# Altium schematic symbol library Schlib1.SchLib: 97 symbols (part 2 of 2)
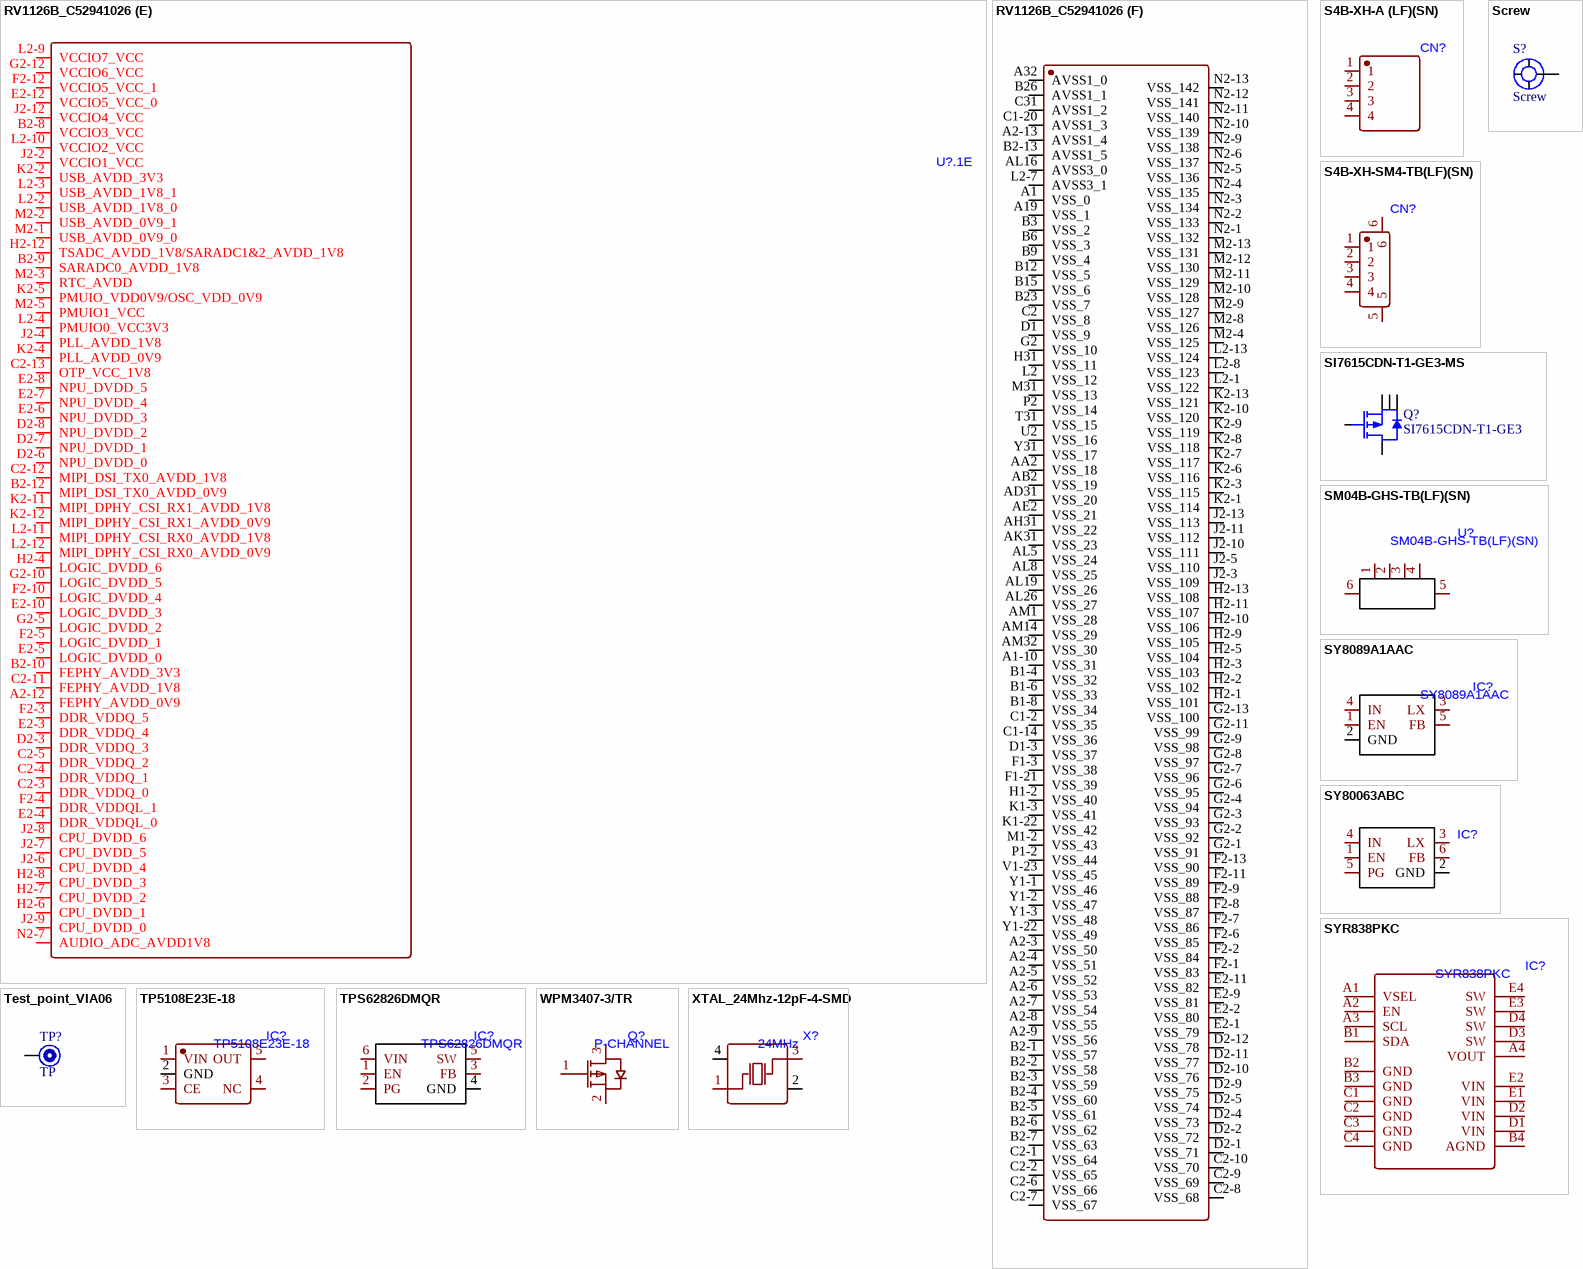
[diagram p12: symbols RV1126B_C52941026 to XTAL_24Mhz-12pF-4-SMD]

## RV1126B_C52941026
designator U?.1
footprint CCSP-491_L14.0-W14.0-TL_RV1126B
part A pins: A1-22 UART0_TX_M1/JTAG_TCK_M2/CAN1_RXD_M0/PWM2_CH6_M0/GPIO5_D6, A2-11 FEPHY_REXT, A25 FEPHY_TXN, A26 FEPHY_TXP, AA1-2 USB_DRD_VBUSDET, AA1-8 I2C2_SCL_M0/PWM0_CH4_M0/GPIO0_D0, AA1-22 I2C4_SCL_M3/PDM_CLK1_M0/PWM2_CH5_M1/GPIO7_A1, AB1-2 USB_DRD_ID, AB1-6 PWR_CTRL1/GPIO0_A4, AC1-6 I2C2_SDA_M0/PWM0_CH5_M0/GPIO0_D1, AC1-10 I2C3_SDA_M0/PWM0_CH6_M0/PWR_CTRL2/GPIO0_C1, AC1-12 I2C3_SCL_M0/PWM0_CH7_M0/GPIO0_C0, AC1-16 I2C4_SDA_M3/PDM_CLK0_M0/UART2_CTSN_M1/GPIO7_A4, AE31 CAM_CLK0_OUT/UART5_CTSN_M0/GPIO4_B1, AF2 EMMC_CLK/FSPI1_CLK_M1/GPIO1_B3, AF31 CAM_CLK1_OUT/UART5_RTSN_M0/GPIO4_B0, AG1 EMMC_CMD/FSPI1_CSN0_M1/GPIO1_B1, AG31 CAM_CLK3_OUT/UART4_RTSN_M0/I2C1_SDA_M2/GPIO4_A0, AG32 CAM_CLK2_OUT/UART4_CTSN_M0/I2C1_SCL_M2/GPIO4_A1, AH1 EMMC_D7/PWM3_CH7_M0/GPIO1_A7, AH2 EMMC_D6/PWM3_CH6_M0/GPIO1_A6, AJ2 EMMC_D5/FSPI0_CSN1/PWM3_CH5_M0/GPIO1_A5, AK1 EMMC_D4/PWM3_CH4_M0/GPIO1_A4, AK2 EMMC_D3/FSPI1_D3_M1/PWM3_CH3_M0/GPIO1_A3, AL1 EMMC_D0/FSPI1_D0_M1/PWM3_CH0_M0/GPIO1_A0, AL2 USB_DRD_DP, AL3 USB_HOST_DM, AL4 USB_HOST_DP, AL6 USB_DRD_SSRXP, AL7 USB_DRD_SSRXN, AL9 UART0_RX_M2/PWM1_CH3_M0/I2C1_SDA_M0/JTAG_TMS_M0/GPIO0_B4, AL12 RTC_32K_OUT/CLK_32K/GPIO0_A2, AL13 NPOR_DET, AL14 OSC_XOUT, AL15 OSC_XIN, AL17 AUDIO_ADC1_MICP, AL18 AUDIO_ADC1_MICN, AM2 USB_DRD_DM, AM4 USB_DRD_SSTXP, AM5 USB_DRD_SSTXN, AM7 OSC_RTC_XOUT, AM8 OSC_RTC_XIN, AM10 UART0_TX_M2/PWM1_CH2_M0/I2C1_SCL_M0/JTAG_TCK_M0/GPIO0_B3, AM11 PWR_CTRL0/GPIO0_A3, AM13 REF_CLK0_OUT/TEST_CLK0_OUT/GPIO0_A0, AM16 AUDIO_ADC0_MICP, AM17 AUDIO_ADC0_MICN, B1-22 UART0_RX_M1/JTAG_TMS_M2/CAN1_TXD_M0/PWM2_CH7_M0/GPIO5_D7, B17 UART2_RX_M0/GPIO3_B0, B18 UART2_CTSN_M0/GPIO3_A7, B19 UART2_RTSN_M0/GPIO3_A6, B24 FEPHY_RXN, B25 FEPHY_RXP, C1-22 FEPHY_LEDSPD_M1/CAN0_TXD_M0/IR_FPA_MCLK/I2C2_SDA_M1/PWM1_CH3_M1/UART3_RX_M1/GPIO5_D5, D2-13 FEPHY_LEDLINK_M1/SPI1_CSN1_M2/CAN0_RXD_M0/IR_FPA_FSYNC/I2C2_SCL_M1/PWM0_CH7_M2/UART3_TX_M1/GPIO5_D4, L2-5 PMUIO0_LDO3V3, L2-6 AUDIO_ADC1_VCM, M1-21 VI_CIF_D12_M0/ETH_MCLK_M0/SPI1_CLK_M0/PDM_CLK0_M1/UART7_TX_M1/GPIO6_B4, M2-6 AUDIO_ADC0_VCM, M2-7 AUDIO_ADC0_VREF, N2-8 AUDIO_ADC1_VREF, P1-21 VI_CIF_D9_M0/ETH_TXCTL_M0/SPI1_CSN0_M0/SAI0_SDI1_M1/SAI0_SDO3_M1/UART6_RX_M1/GPIO6_B1, P1-22 VI_CIF_D10_M0/ETH_RXD0_M0/SPI1_MOSI_M0/PDM_SDI2_M1/UART6_RTSN_M1/GPIO6_B2, P1-23 VI_CIF_D11_M0/ETH_RXD1_M0/SPI1_MISO_M0/PDM_SDI3_M1/UART6_CTSN_M1/GPIO6_B3, V1-2 EMMC_D2/FSPI1_D2_M1/PWM3_CH2_M0/GPIO1_A2, V1-3 EMMC_D1/FSPI1_D1_M1/PWM3_CH1_M0/GPIO1_A1, Y1-23 PWM0_CH4_M1/UART4_RX_M0/GPIO4_A2
part B pins: A1-14 SPI1_CLK_M1/SAI2_SCLK_M0/PWM2_CH2_M0/UART1_RTSN_M1/I2C4_SCL_M0/FEPHY_LEDLINK_M0/GPIO3_B4, A1-16 SPI1_CSN0_M1/SAI2_LRCK_M0/PWM2_CH3_M0/UART1_CTSN_M1/I2C4_SDA_M0/FEPHY_LEDSPD_M0/GPIO3_B5, A20 SDMMC1_D2/GPIO3_A4, A22 SDMMC1_D0/I2C1_SCL_M1/GPIO3_A2, A23 SDMMC1_D1/I2C1_SDA_M1/GPIO3_A3, AA1-4 FSPI1_D1_M0/SPI0_MISO_M0/GPIO0_B1, AA1-6 FSPI1_D2_M0/SPI0_CSN1_M0/GPIO0_A6, AA1-10 SPI2AHB_D2/PWM0_CH1_M0/UART1_RX_M0/I2C5_SDA_M0/GPIO0_C5, AA1-12 SPI2AHB_CSN0/I2C0_SCL_M0/GPIO0_C2, AA1-18 SDMMC0_D3/UART3_TX_M0/UART4_CTSN_M3/JTAG_TMS_M1/GPIO2_A3, AA1-20 SDMMC0_D1/UART0_TX_M0/I2C0_SCL_M1/GPIO2_A1, AB1-4 FSPI1_D0_M0/SPI0_MOSI_M0/GPIO0_B0, AB1-8 SPI2AHB_D0/PWM0_CH3_M0/UART1_CTSN_M0/GPIO0_C7, AB1-10 SPI2AHB_D1/PWM0_CH2_M0/UART1_RTSN_M0/GPIO0_C6, AB1-12 SPI2AHB_CLK/I2C0_SDA_M0/GPIO0_C3, AB1-18 SDMMC0_D2/UART3_RX_M0/UART4_RTSN_M3/JTAG_TCK_M1/TEST_CLK1_OUT/GPIO2_A2, AB1-20 SDMMC0_D0/UART0_RX_M0/I2C0_SDA_M1/GPIO2_A0, AC1-2 FSPI1_CLK_M0/SPI0_CLK_M0/GPIO0_B2, AC1-4 FSPI1_CSN0_M0/SPI0_CSN0_M0/GPIO0_A7, AC1-8 SPI2AHB_D3/PWM0_CH0_M0/UART1_TX_M0/I2C5_SCL_M0/GPIO0_C4, AC1-18 SDMMC0_CMD/UART3_CTSN_M0/UART4_TX_M3/GPIO2_A5, AC1-20 SDMMC0_CLK/UART3_RTSN_M0/UART4_RX_M3/GPIO2_A4, AF32 SPI0_MISO_M1/SAI1_LRCK_M1/I2C3_SDA_M1/GPIO4_A5, AG2 FSPI0_CLK/GPIO1_B7, AL10 SDMMC0_DETN/PWM1_CH0_M0/GPIO0_A5, AL11 FSPI1_D3_M0/PWM1_CH1_M0/TSADC_SHUT/TSADC_SHUTORG/GPIO0_A1, B1-14 SPI1_MISO_M1/SAI2_SDI0_M0/PWM2_CH1_M0/PRELIGHT_TRIG_OUT/GPIO3_B3, B1-16 SPI1_MOSI_M1/SAI2_SDO_M0/PWM2_CH0_M0/FLASH_TRIG_OUT/GPIO3_B2, B16 SPI1_CSN1_M1/SAI2_MCLK_M0/SDMMC1_DETN/UART1_TX_M1/I2C5_SCL_M1/GPIO3_B6, B20 SDMMC1_D3/GPIO3_A5, B21 SDMMC1_CMD/GPIO3_A1, B22 SDMMC1_CLK/GPIO3_A0, D1-21 VO_LCDC_D23/ETH_RXCLK_M1/VI_CIF_HSYNC_M1/DSMC_D0/SAI1_SDI_M2/PWM3_CH7_M1/GPIO5_C7, D1-22 VO_LCDC_D22/ETH_TXCLK_M1/VI_CIF_CLKIN_M1/DSMC_D1/SAI1_LRCK_M2/PWM3_CH6_M1/GPIO5_C6, D1-23 VO_LCDC_D21/ETH_TXD2_M1/VI_CIF_CLKOUT_M1/DSMC_D2/SAI1_SCLK_M2/PWM3_CH5_M1/GPIO5_C5, D31 VO_LCDC_CLK/SPI1_MISO_M2/DSMC_INT2/PWM1_CH0_M1/UART3_CTSN_M1/GPIO5_D3, E2-13 VO_LCDC_D11/ETH_MCLK_M1/VI_CIF_D7_M1/DSMC_RDYN/PWM2_CH1_M1/UART6_CTSN_M0/GPIO5_B3, E31 VO_LCDC_HSYNC/SPI1_CLK_M2/ETH_PPSTRIG_M1/DSMC_CSN2/I2C3_SDA_M2/PWM1_CH2_M1/GPIO5_D1, E32 VO_LCDC_VSYNC/SPI1_MOSI_M2/DSMC_INT3/PWM1_CH1_M1/UART3_RTSN_M1/GPIO5_D2, F1-22 VO_LCDC_D17/ETH_CLK_25M_OUT_M1/VI_CIF_D13_M1/DSMC_D6/IR_FPA_SDA5/PWM3_CH1_M1/GPIO5_C1, F1-23 VO_LCDC_D18/ETH_TXCTL_M1/VI_CIF_D14_M1/DSMC_D5/IR_FPA_SDA6/PWM3_CH2_M1/GPIO5_C2, F31 VO_LCDC_D20/ETH_RXD3_M1/VI_CIF_VSYNC_M1/DSMC_D3/SAI1_SDO_M2/PWM3_CH4_M1/GPIO5_C4, F32 VO_LCDC_DEN/SPI1_CSN0_M2/ETH_PTP_REFCLK_M1/DSMC_CSN3/I2C3_SCL_M2/PWM0_CH6_M2/GPIO5_D0, G31 VO_LCDC_D19/ETH_RXD2_M1/VI_CIF_D15_M1/DSMC_D4/SAI1_MCLK_M2/PWM3_CH3_M1/GPIO5_C3, H1-21 VO_LCDC_D13/ETH_MDIO_M1/VI_CIF_D9_M1/DSMC_DQS0/UART7_RX_M0/GPIO5_B5, H1-22 VO_LCDC_D12/VI_CIF_D8_M1/DSMC_CSN0/UART7_TX_M0/GPIO5_B4, H1-23 VO_LCDC_D10/ETH_RXD1_M1/VI_CIF_D6_M1/DSMC_RESETN/DSMC_INT1/PWM2_CH0_M1/UART6_RTSN_M0/GPIO5_B2, H32 VO_LCDC_D15/ETH_TXD0_M1/VI_CIF_D11_M1/DSMC_CLKP/PWM2_CH3_M1/UART7_CTSN_M0/GPIO5_B7, J31 VO_LCDC_D14/ETH_MDC_M1/VI_CIF_D10_M1/DSMC_CLKN/DSMC_INT0/PWM2_CH2_M1/UART7_RTSN_M0/GPIO5_B6, J32 VO_LCDC_D16/ETH_TXD1_M1/VI_CIF_D12_M1/DSMC_D7/IR_FPA_SDA4/PWM3_CH0_M1/GPIO5_C0, K1-23 VO_LCDC_D9/ETH_RXD0_M1/VI_CIF_D5_M1/DSMC_D8/IR_FPA_SDA3/UART6_RX_M0/GPIO5_B1, K31 VO_LCDC_D8/ETH_RXCTL_M1/VI_CIF_D4_M1/DSMC_D9/IR_FPA_SDA2/UART6_TX_M0/GPIO5_B0, L31 VO_LCDC_D7/SPI0_CSN1_M2/VI_CIF_D3_M1/DSMC_D10/SAI2_LRCK_M1/I2C5_SDA_M2/PWM0_CH0_M1/UART5_CTSN_M1/GPIO5_A7, L32 VO_LCDC_D6/SPI0_CLK_M2/DSMC_D11/SAI2_SDI0_M1/PWM0_CH1_M1/UART5_RTSN_M1/GPIO5_A6, M32 VO_LCDC_D5/SPI0_MISO_M2/DSMC_D12/SAI2_SCLK_M1/PWM0_CH2_M1/UART5_RX_M1/GPIO5_A5, N31 VO_LCDC_D4/SPI0_MOSI_M2/DSMC_D13/SAI2_SDO_M1/PWM0_CH3_M1/UART5_TX_M1/GPIO5_A4, P1-3 FSPI0_D1/SAI1_SCLK_M0/GPIO1_B5, P31 VO_LCDC_D3/SPI0_CSN0_M2/DSMC_D14/SAI2_MCLK_M1/PWM0_CH4_M2/UART4_RX_M1/GPIO5_A3, P32 VO_LCDC_D2/ETH_PPSCLK_M1/VI_CIF_D2_M1/DSMC_D15/SAI2_SDI1_M1/PWM0_CH5_M2/UART4_TX_M1/GPIO5_A2, R31 VO_LCDC_D0/ETH_TXD3_M1/VI_CIF_D0_M1/DSMC_CSN1/IR_FPA_SDA0/PWM2_CH4_M0/UART4_RTSN_M1/GPIO5_A0, R32 VO_LCDC_D1/I2C5_SCL_M2/VI_CIF_D1_M1/DSMC_DQS1/SAI2_SDI2_M1/IR_FPA_SDA1/PWM2_CH5_M0/UART4_CTSN_M1/GPIO5_A1, T1-1 FSPI0_D3/SAI1_SDI_M0/GPIO1_B6, T1-2 FSPI0_D0/SAI1_LRCK_M0/GPIO1_B4, T1-3 FSPI0_D2/SAI1_SDO_M0/GPIO1_B2, T1-21 SPI0_CSN0_M1/SAI1_SDI_M1/PWM0_CH6_M1/UART5_TX_M0/I2C4_SDA_M2/GPIO4_A6, T1-22 SPI0_CLK_M1/SAI1_SDO_M1/PWM0_CH7_M1/UART5_RX_M0/I2C4_SCL_M2/GPIO4_A7, V1-1 FSPI0_CSN0/SAI1_MCLK_M0/GPIO1_B0, V1-21 SPI0_CSN1_M1/SAI1_MCLK_M1/PWM0_CH5_M1/UART4_TX_M0/GPIO4_A3, V1-22 SPI0_MOSI_M1/SAI1_SCLK_M1/I2C3_SCL_M1/GPIO4_A4
part C pins: A1-18 SARADC0_IN2, A1-20 SARADC0_IN7_BOOT, A2-10 SARADC0_IN6, A16 SAI2_SDI1_M0/UART1_RX_M1/I2C5_SDA_M1/GPIO3_B7, A17 SAI2_SDI2_M0/UART2_TX_M0/GPIO3_B1, A28 MIPI_DPHY_DSI_TX_D1N, A29 MIPI_DPHY_DSI_TX_D1P, A31 MIPI_DPHY_DSI_TX_D2P, AA1-14 SAI0_SDI3_M0/SAI0_SDO1_M0/PDM_SDI3_M0/UART2_RTSN_M1/GPIO7_A7, AA1-16 SAI0_MCLK_M0/PWM2_CH6_M1/GPIO7_A2, AA31 SARADC1_IN5/VI_CIF_D5_M0/ETH_TXD2_M0/PWM2_CH1_M2/UART5_CTSN_M2/I2C5_SDA_M3/GPIO6_A5, AA32 SARADC1_IN6/VI_CIF_D6_M0/ETH_TXD3_M0/PWM2_CH2_M2/UART4_RTSN_M2/GPIO6_A6, AB1-14 SAI0_SDI2_M0/SAI0_SDO2_M0/PDM_SDI2_M0/DSM_AUD_RN/I2C1_SCL_M3/UART2_RX_M1/GPIO7_B0, AB1-16 SAI0_SDI0_M0/PDM_SDI0_M0/GPIO7_A6, AB1-22 SAI0_LRCK_M0/DSM_AUD_LN/PWM2_CH7_M1/GPIO7_A3, AB31 SARADC1_IN4/VI_CIF_D4_M0/ETH_RXD3_M0/SAI0_MCLK_M1/PWM2_CH0_M2/UART5_RTSN_M2/I2C5_SCL_M3/GPIO6_A4, AC1-14 SAI0_SDI1_M0/SAI0_SDO3_M0/PDM_SDI1_M0/DSM_AUD_RP/I2C1_SDA_M3/UART2_TX_M1/GPIO7_B1, AC1-22 SAI0_SDO0_M0/DSM_AUD_LP/GPIO7_A5, AC31 SARADC1_IN3/VI_CIF_D3_M0/ETH_RXD2_M0/CAN1_TXD_M1/SAI0_SDI0_M1/PWM1_CH3_M2/UART5_RX_M2/I2C4_SDA_M1/GPIO6_A3, AC32 SARADC1_IN2/VI_CIF_D2_M0/ETH_PPSCLK_M0/CAN1_RXD_M1/SAI0_SDO0_M1/PWM1_CH2_M2/UART5_TX_M2/I2C4_SCL_M1/GPIO6_A2, AD32 SARADC1_IN1/VI_CIF_D1_M0/ETH_PTP_REFCLK_M0/CAN0_TXD_M1/SAI0_LRCK_M1/PWM1_CH1_M2/UART4_RX_M2/I2C3_SDA_M3/GPIO6_A1, AJ31 MIPI_DPHY_CSI_RX1_D0N, AJ32 MIPI_DPHY_CSI_RX1_D0P, AK32 MIPI_DPHY_CSI_RX1_D1N, AL20 MIPI_DPHY_CSI_RX0_D3P, AL21 MIPI_DPHY_CSI_RX0_D3N, AL22 MIPI_DPHY_CSI_RX0_CLK1P, AL23 MIPI_DPHY_CSI_RX0_CLK0N, AL24 MIPI_DPHY_CSI_RX0_D1P, AL25 MIPI_DPHY_CSI_RX0_D1N, AL27 MIPI_DPHY_CSI_RX1_D2P, AL28 MIPI_DPHY_CSI_RX1_D2N, AL29 MIPI_DPHY_CSI_RX1_CLK1P, AL30 MIPI_DPHY_CSI_RX1_CLK1N, AL31 MIPI_DPHY_CSI_RX1_CLK0P, AL32 MIPI_DPHY_CSI_RX1_D1P, AM19 MIPI_DPHY_CSI_RX0_D2P, AM20 MIPI_DPHY_CSI_RX0_D2N, AM22 MIPI_DPHY_CSI_RX0_CLK1N, AM23 MIPI_DPHY_CSI_RX0_CLK0P, AM25 MIPI_DPHY_CSI_RX0_D0P, AM26 MIPI_DPHY_CSI_RX0_D0N, AM28 MIPI_DPHY_CSI_RX1_D3P, AM29 MIPI_DPHY_CSI_RX1_D3N, AM31 MIPI_DPHY_CSI_RX1_CLK0N, B1-18 SARADC0_IN3, B1-20 SARADC0_IN0, B2-11 SARADC0_IN4, B27 MIPI_DPHY_DSI_TX_D0N, B28 MIPI_DPHY_DSI_TX_D0P, B29 MIPI_DPHY_DSI_TX_CLKN, B30 MIPI_DPHY_DSI_TX_CLKP, B31 MIPI_DPHY_DSI_TX_D2N, B32 MIPI_DPHY_DSI_TX_D3N, C1-16 SARADC0_IN5, C1-18 SARADC0_IN1, C32 MIPI_DPHY_DSI_TX_D3P, K1-21 SARADC2_IN3/VI_CIF_D15_M0/ETH_MDIO_M0/PDM_CLK1_M1/UART7_CTSN_M1/GPIO6_B7, M1-22 SARADC2_IN1/VI_CIF_D13_M0/ETH_RXCTL_M0/PDM_SDI0_M1/UART7_RX_M1/GPIO6_B5, M1-23 SARADC2_IN2/VI_CIF_D14_M0/PDM_SDI1_M1/UART7_RTSN_M1/GPIO6_B6, T1-23 SARADC1_IN0/VI_CIF_D0_M0/ETH_PPSTRIG_M0/CAN0_RXD_M1/SAI0_SCLK_M1/PWM1_CH0_M2/UART4_TX_M2/I2C3_SCL_M3/GPIO6_A0, U31 SARADC2_IN6/VI_CIF_CLKOUT_M0/ETH_TXCLK_M0/FEPHY_LEDLINK_M2/PWM0_CH2_M2/UART3_TX_M2/GPIO6_C2, U32 SARADC2_IN5/VI_CIF_CLKIN_M0/ETH_CLK_25M_OUT_M0/PWM0_CH1_M2/UART3_CTSN_M2/GPIO6_C1, V31 SARADC2_IN7/VI_CIF_HSYNC_M0/ETH_RXCLK_M0/FEPHY_LEDSPD_M2/PWM0_CH3_M2/UART3_RX_M2/I2C2_SDA_M2/GPIO6_C3, V32 SARADC2_IN4/VI_CIF_VSYNC_M0/ETH_MDC_M0/PWM0_CH0_M2/UART3_RTSN_M2/I2C2_SCL_M2/GPIO6_C0, W31 SARADC2_IN0/VI_CIF_D8_M0/ETH_TXD1_M0/SPI1_CSN1_M0/SAI0_SDI2_M1/SAI0_SDO2_M1/UART6_TX_M1/GPIO6_B0, Y1-21 SAI0_SCLK_M0/PWM2_CH4_M1/GPIO7_A0, Y32 SARADC1_IN7/VI_CIF_D7_M0/ETH_TXD0_M0/PWM2_CH3_M2/SAI0_SDI3_M1/SAI0_SDO1_M1/UART4_CTSN_M2/GPIO6_A7
part D pins: A1-2 DDR3_CLKN/DDR4_CLKN/LPDDR3_CLKN/LPDDR4_CLKN_B, A1-4 DDR3_A10/DDR4_A15_CASN/LPDDR4_A0_B, A1-6 DDR3_A15/DDR4_A3/LPDDR4_A5_B, A1-8 DDR3_A4/DDR4_A7/LPDDR3_A4/LPDDR4_ODT0_A, A1-12 DDR3_A7/DDR4_A11/LPDDR3_A7/LPDDR4_A2_A, A2 DDR3_DQ26/DDR4_DQU2_B/LPDDR3_DQ28/LPDDR4_DQ10_B, A2-1 DDR3_RESETN/DDR4_RESETN/LPDDR4_RESETN, A2-2 DDR_RZQ, A4 DDR3_ODT0/DDR4_CSN0/LPDDR3_ODT0/LPDDR4_A2_B, A5 DDR3_CKE/DDR4_ACTN/LPDDR3_CKE/LPDDR4_A3_B, A7 DDR3_ODT1/DDR4_BG0/LPDDR3_ODT1/LPDDR4_CSN1_A, A8 DDR3_A12/DDR4_A5/LPDDR4_ODT0_B, A10 DDR3_A1/DDR4_A8/LPDDR3_A1/LPDDR4_CKE0_A, A11 DDR3_A5/DDR4_A9/LPDDR3_A5/LPDDR4_A5_A, A13 DDR3_A0/DDR4_ODT1/LPDDR3_A0/LPDDR4_ODT1_B, A14 DDR3_A14/DDR4_A14_WEN/LPDDR4_CSN1_B, AA1 DDR3_DQS2N/DDR4_DQSL_N_B/LPDDR3_DQS2N/LPDDR4_DQS0N_A, AB1 DDR3_DQS2P/DDR4_DQSL_P_B/LPDDR3_DQS2P/LPDDR4_DQS0P_A, AC2 DDR3_DQ23/DDR4_DQL7_B/LPDDR3_DQ20/LPDDR4_DQ7_A, AD1 DDR3_DQ21/DDR4_DQL5_B/LPDDR3_DQ16/LPDDR4_DQ5_A, AD2 DDR3_DQ22/DDR4_DQL6_B/LPDDR3_DQ17/LPDDR4_DQ6_A, AE1 DDR3_DQ20/DDR4_DQL4_B/LPDDR3_DQ21/LPDDR4_DQ4_A, B1 DDR3_DQ25/DDR4_DQU1_B/LPDDR3_DQ31/LPDDR4_DQ9_B, B1-2 DDR3_CLKP/DDR4_CLKP/LPDDR3_CLKP/LPDDR4_CLKP_B, B1-10 DDR3_A6/DDR4_A4/LPDDR3_A6/LPDDR4_CLKP_A, B1-12 DDR3_A9/DDR4_A2/LPDDR3_A9/LPDDR4_A4_A, B2 DDR3_DQ27/DDR4_DQU3_B/LPDDR3_DQ29/LPDDR4_DQ11_B, B4 DDR3_CASN/DDR4_CKE/LPDDR4_A1_B, B5 DDR3_CSN0/DDR4_ODT0/LPDDR3_CSN0/LPDDR4_A4_B, B7 DDR3_A11/DDR4_A16_RASN/LPDDR4_CSN0_B, B8 DDR3_BA2/DDR4_A6/LPDDR4_A0_A, B10 DDR3_BA0/DDR4_CSN1, B11 DDR3_CSN1/DDR4_BA0/LPDDR3_CSN1/LPDDR4_CSN0_A, B13 DDR3_A3/DDR4_A0/LPDDR3_A3/LPDDR4_CKE1_A, B14 DDR3_A13/DDR4_A13/LPDDR4_A3_A, C1 DDR3_DQ24/DDR4_DQU0_B/LPDDR3_DQ30/LPDDR4_DQ8_B, C1-4 DDR3_RASN/DDR4_A12/LPDDR4_A1_A, C1-6 DDR3_WEN/DDR4_BA1/LPDDR4_CKE1_B, C1-8 DDR3_BA1/DDR4_A1/LPDDR4_CKE0_B, C1-10 DDR3_A8/DDR4_A10/LPDDR3_A8/LPDDR4_CLKN_A, C1-12 DDR3_A2/DDR4_BG1/LPDDR3_A2/LPDDR4_ODT1_A, D1-1 DDR3_DQS3P/DDR4_DQSU_P_B/LPDDR3_DQS3P/LPDDR4_DQS1P_B, D1-2 DDR3_DQS3N/DDR4_DQSU_N_B/LPDDR3_DQS3N/LPDDR4_DQS1N_B, D2 DDR3_DM3/DDR4_DMU_B/LPDDR3_DM3/LPDDR4_DM1_B, E2 DDR3_DQ31/DDR4_DQU7_B/LPDDR3_DQ27/LPDDR4_DQ15_B, F1 DDR3_DQ29/DDR4_DQU5_B/LPDDR3_DQ25/LPDDR4_DQ13_B, F1-1 DDR3_DQS1P/DDR4_DQSU_P_A/LPDDR3_DQS1P/LPDDR4_DQS0P_B, F1-2 DDR3_DQS1N/DDR4_DQSU_N_A/LPDDR3_DQS1N/LPDDR4_DQS0N_B, F2 DDR3_DQ30/DDR4_DQU6_B/LPDDR3_DQ26/LPDDR4_DQ14_B, G1 DDR3_DQ28/DDR4_DQU4_B/LPDDR3_DQ24/LPDDR4_DQ12_B, H1-1 DDR3_DQ3/DDR4_DQL3_A/LPDDR3_DQ0/LPDDR4_DQ11_A, H1-3 DDR3_DQ6/DDR4_DQL6_A/LPDDR3_DQ5/LPDDR4_DQ14_A, H2 DDR3_DQ12/DDR4_DQU4_A/LPDDR3_DQ12/LPDDR4_DQ4_B, J1 DDR3_DQ14/DDR4_DQU6_A/LPDDR3_DQ14/LPDDR4_DQ6_B, J2 DDR3_DQ13/DDR4_DQU5_A/LPDDR3_DQ13/LPDDR4_DQ5_B, J2-1 DDR_VREFOUT, K1 DDR3_DQ15/DDR4_DQU7_A/LPDDR3_DQ15/LPDDR4_DQ7_B, K1-1 DDR3_DQS0P/DDR4_DQSL_P_A/LPDDR3_DQS0P/LPDDR4_DQS1P_A, K1-2 DDR3_DQS0N/DDR4_DQSL_N_A/LPDDR3_DQS0N/LPDDR4_DQS1N_A, K2 DDR3_DM1/DDR4_DMU_A/LPDDR3_DM1/LPDDR4_DM0_B, M1 DDR3_DQ9/DDR4_DQU1_A/LPDDR3_DQ11/LPDDR4_DQ1_B, M1-1 DDR3_DM0/DDR4_DML_A/LPDDR3_DM0/LPDDR4_DM1_A, M1-3 DDR3_DQ1/DDR4_DQL1_A/LPDDR3_DQ6/LPDDR4_DQ9_A, M2 DDR3_DQ8/DDR4_DQU0_A/LPDDR3_DQ10/LPDDR4_DQ0_B, N1 DDR3_DQ10/DDR4_DQU2_A/LPDDR3_DQ8/LPDDR4_DQ2_B, N2 DDR3_DQ11/DDR4_DQU3_A/LPDDR3_DQ9/LPDDR4_DQ3_B, P1-1 DDR3_DQ7/DDR4_DQL7_A/LPDDR3_DQ1/LPDDR4_DQ15_A, R1 DDR3_DQ0/DDR4_DQL0_A/LPDDR3_DQ2/LPDDR4_DQ8_A, R2 DDR3_DQ2/DDR4_DQL2_A/LPDDR3_DQ4/LPDDR4_DQ10_A, T1 DDR3_DQ5/DDR4_DQL5_A/LPDDR3_DQ7/LPDDR4_DQ13_A, T2 DDR3_DQ4/DDR4_DQL4_A/LPDDR3_DQ3/LPDDR4_DQ12_A, V1 DDR3_DQ18/DDR4_DQL2_B/LPDDR3_DQ23/LPDDR4_DQ2_A, V2 DDR3_DQ19/DDR4_DQL3_B/LPDDR3_DQ22/LPDDR4_DQ3_A, W1 DDR3_DQ17/DDR4_DQL1_B/LPDDR3_DQ18/LPDDR4_DQ1_A, W2 DDR3_DM2/DDR4_DML_B/LPDDR3_DM2/LPDDR4_DM0_A, Y2 DDR3_DQ16/DDR4_DQL0_B/LPDDR3_DQ19/LPDDR4_DQ0_A
part E pins: A2-12 FEPHY_AVDD_0V9, B2-8 VCCIO3_VCC, B2-9 SARADC0_AVDD_1V8, B2-10 FEPHY_AVDD_3V3, B2-12 MIPI_DSI_TX0_AVDD_0V9, C2-3 DDR_VDDQ_0, C2-4 DDR_VDDQ_1, C2-5 DDR_VDDQ_2, C2-11 FEPHY_AVDD_1V8, C2-12 MIPI_DSI_TX0_AVDD_1V8, C2-13 OTP_VCC_1V8, D2-3 DDR_VDDQ_3, D2-6 NPU_DVDD_0, D2-7 NPU_DVDD_1, D2-8 NPU_DVDD_2, E2-3 DDR_VDDQ_4, E2-4 DDR_VDDQL_0, E2-5 LOGIC_DVDD_0, E2-6 NPU_DVDD_3, E2-7 NPU_DVDD_4, E2-8 NPU_DVDD_5, E2-10 LOGIC_DVDD_3, E2-12 VCCIO5_VCC_0, F2-3 DDR_VDDQ_5, F2-4 DDR_VDDQL_1, F2-5 LOGIC_DVDD_1, F2-10 LOGIC_DVDD_4, F2-12 VCCIO5_VCC_1, G2-5 LOGIC_DVDD_2, G2-10 LOGIC_DVDD_5, G2-12 VCCIO6_VCC, H2-4 LOGIC_DVDD_6, H2-6 CPU_DVDD_1, H2-7 CPU_DVDD_2, H2-8 CPU_DVDD_3, H2-12 TSADC_AVDD_1V8/SARADC1&2_AVDD_1V8, J2-2 VCCIO1_VCC, J2-4 PLL_AVDD_1V8, J2-6 CPU_DVDD_4, J2-7 CPU_DVDD_5, J2-8 CPU_DVDD_6, J2-9 CPU_DVDD_0, J2-12 VCCIO4_VCC, K2-2 USB_AVDD_3V3, K2-4 PLL_AVDD_0V9, K2-5 PMUIO_VDD0V9/OSC_VDD_0V9, K2-11 MIPI_DPHY_CSI_RX1_AVDD_1V8, K2-12 MIPI_DPHY_CSI_RX1_AVDD_0V9, L2-2 USB_AVDD_1V8_0, L2-3 USB_AVDD_1V8_1, L2-4 PMUIO0_VCC3V3, L2-9 VCCIO7_VCC, L2-10 VCCIO2_VCC, L2-11 MIPI_DPHY_CSI_RX0_AVDD_1V8, L2-12 MIPI_DPHY_CSI_RX0_AVDD_0V9, M2-1 USB_AVDD_0V9_0, M2-2 USB_AVDD_0V9_1, M2-3 RTC_AVDD, M2-5 PMUIO1_VCC, N2-7 AUDIO_ADC_AVDD1V8
part F pins: A1 VSS_0, A1-10 VSS_31, A2-3 VSS_50, A2-4 VSS_51, A2-5 VSS_52, A2-6 VSS_53, A2-7 VSS_54, A2-8 VSS_55, A2-9 VSS_56, A2-13 AVSS1_4, A19 VSS_1, A32 AVSS1_0, AA2 VSS_18, AB2 VSS_19, AD31 VSS_20, AE2 VSS_21, AH31 VSS_22, AK31 VSS_23, AL5 VSS_24, AL8 VSS_25, AL16 AVSS3_0, AL19 VSS_26, AL26 VSS_27, AM1 VSS_28, AM14 VSS_29, AM32 VSS_30, B1-4 VSS_32, B1-6 VSS_33, B1-8 VSS_34, B2-1 VSS_57, B2-2 VSS_58, B2-3 VSS_59, B2-4 VSS_60, B2-5 VSS_61, B2-6 VSS_62, B2-7 VSS_63, B2-13 AVSS1_5, B3 VSS_2, B6 VSS_3, B9 VSS_4, B12 VSS_5, B15 VSS_6, B23 VSS_7, B26 AVSS1_1, C1-2 VSS_35, C1-14 VSS_36, C1-20 AVSS1_3, C2 VSS_8, C2-1 VSS_64, C2-2 VSS_65, C2-6 VSS_66, C2-7 VSS_67, C2-8 VSS_68, C2-9 VSS_69, C2-10 VSS_70, C31 AVSS1_2, D1 VSS_9, D1-3 VSS_37, D2-1 VSS_71, D2-2 VSS_72, D2-4 VSS_73, D2-5 VSS_74, D2-9 VSS_75, D2-10 VSS_76, D2-11 VSS_77, D2-12 VSS_78, E2-1 VSS_79, E2-2 VSS_80, E2-9 VSS_81, E2-11 VSS_82, F1-3 VSS_38, F1-21 VSS_39, F2-1 VSS_83, F2-2 VSS_84, F2-6 VSS_85, F2-7 VSS_86, F2-8 VSS_87, F2-9 VSS_88, F2-11 VSS_89, F2-13 VSS_90, G2 VSS_10, G2-1 VSS_91, G2-2 VSS_92, G2-3 VSS_93, G2-4 VSS_94, G2-6 VSS_95, G2-7 VSS_96, G2-8 VSS_97, G2-9 VSS_98, G2-11 VSS_99, G2-13 VSS_100, H1-2 VSS_40, H2-1 VSS_101, H2-2 VSS_102, H2-3 VSS_103, H2-5 VSS_104, H2-9 VSS_105, H2-10 VSS_106, H2-11 VSS_107, H2-13 VSS_108, H31 VSS_11, J2-3 VSS_109, J2-5 VSS_110, J2-10 VSS_111, J2-11 VSS_112, J2-13 VSS_113, K1-3 VSS_41, K1-22 VSS_42, K2-1 VSS_114, K2-3 VSS_115, K2-6 VSS_116, K2-7 VSS_117, K2-8 VSS_118, K2-9 VSS_119, K2-10 VSS_120, K2-13 VSS_121, L2 VSS_12, L2-1 VSS_122, L2-7 AVSS3_1, L2-8 VSS_123, L2-13 VSS_124, M1-2 VSS_43, M2-4 VSS_125, M2-8 VSS_126, M2-9 VSS_127, M2-10 VSS_128, M2-11 VSS_129, M2-12 VSS_130, M2-13 VSS_131, M31 VSS_13, N2-1 VSS_132, N2-2 VSS_133, N2-3 VSS_134, N2-4 VSS_135, N2-5 VSS_136, N2-6 VSS_137, N2-9 VSS_138, N2-10 VSS_139, N2-11 VSS_140, N2-12 VSS_141, N2-13 VSS_142, P1-2 VSS_44, P2 VSS_14, T31 VSS_15, U2 VSS_16, V1-23 VSS_45, Y1-1 VSS_46, Y1-2 VSS_47, Y1-3 VSS_48, Y1-22 VSS_49, Y31 VSS_17

## S4B-XH-A (LF)(SN)
designator CN?, comment Through Hole,Right Angle,P=2.5mm  (value not drawn)
footprint CONN-TH_S4B-XH-A-LF-SN
pins: 1, 2, 3, 4

## S4B-XH-SM4-TB(LF)(SN)
designator CN?  (value not drawn)
CONN HEADER SMD R/A 4POS 2.5mm
footprint CONN-SMD_S4B-XH-SM4-TB-LF-SN
pins: 1, 2, 3, 4, 5, 6

## Screw
designator S?
footprint SCREW 3.0 (M3)
pins: 1

## SI7615CDN-T1-GE3-MS
designator Q?, comment SI7615CDN-T1-GE3
22W 20V 60A 700mV 7mΩ@4.5V 1 P-Channel P-Channel DFN-8L(3x3) Single FETs, MOSFETs RoHS; Manufacturer: Vishay Siliconix; Manufacturer Part Number: SI7615CDN-T1-GE3; Case/Package: PowerPAK® 1212-8; Supplier-1: Digikey
footprint PowerPAK_1212-8_SMD (Footprint not found)
pins: 1 S, 2 S, 3 S, 4 G, 5 D

## SM04B-GHS-TB(LF)(SN)
designator U?
CONN HEADER SMD R/A 4POS 1.25mm
footprint CONN-SMD_4P-P1.25_SM04B-GHS-TB-LF-SN
pins: 1, 2, 3, 4, 5, 6

## SY8089A1AAC
designator IC?
High Efficiency, 1.5MHz, 2A Synchronous Step Down Regulator; ComponentLink1Description: LCSC; ComponentLink1URL: https://www.lcsc.com/product-detail/C479074.html?s_z=n_q_SY8089A&spm=wm.fly.bg.0.xh&lcsc_vid=EwRWBFZSQVIPVFdUTlJfVldeFFRYUFQAElRYBFRRE1MxVlNeRVlcV1JUT1FeXzsOAxUeFF5JWBYZEEoKFBINSQcJGk4NBhADEA4cHktXR1NXSQwSGg0%3D
footprint SOT-23-5_L3.0-W1.7-P0.95-LS2.8-BR (SOT 23-5)
pins: 1 EN, 2 GND, 3 LX, 4 IN, 5 FB

## SY80063ABC
designator IC?  (value not drawn)
High Efficiency, 1MHz, 3A Synchronous Step Down Regulator
footprint SOT-23-6_L2.9-W1.6-P0.95-LS2.8-BL-1
pins: 1 EN, 2 GND, 3 LX, 4 IN, 5 PG, 6 FB

## SYR838PKC
designator IC?
High-efficiency 5.5V, 6A, 2.4MHz synchronous buck regulator
footprint BGA-20_L15.6-W2.0-R4-C6-P0.40-BL
pins: A1 VSEL, A2 EN, A3 SCL, A4 VOUT, B1 SDA, B2 GND, B3 GND, B4 AGND, C1 GND, C2 GND, C3 GND, C4 GND, D1 VIN, D2 VIN, D3 SW, D4 SW, E1 VIN, E2 VIN, E3 SW, E4 SW

## Test_point_VIA06
designator TP?, comment TP
Test Point; Value: Test Point
footprint Test_point_DNM (Test point do not mount)
footprint TP6 (Jac cap 6ly)
footprint Test_point_VIA06 (Test point do not mount)
footprint TEST POINT 1mm
pins: 1

## TP5108E23E-18
designator IC?
500mA High PSRR Voltage Regulators; ComponentLink1Description: LCSC; ComponentLink1URL: https://www.lcsc.com/product-detail/C907845.html?s_z=n_q_TP5108E23E-18&spm=wm.fly.bg.0.xh&lcsc_vid=EwRWBFZSQVIPVFdUTlJfVldeFFRYUFQAElRYBFRRE1MxVlNeRVlfX1FSQ1RZUjsOAxUeFF5JWBYZEEoKFBINSQcJGk4NBhADEA4cHktXR1JcSQwSGg0%3D
footprint SOT-23-5_L3.0-W1.7-P0.95-LS2.8-BL
pins: 1 VIN, 2 GND, 3 CE, 4 NC, 5 OUT

## TPS62826DMQR
designator IC?
2.4-V-5.5-V input, 3-A step-down converter with 1% accuracy in 1.5-mm x 1.5-mm VSON-HR package; ComponentLink1Description: LCSC; ComponentLink1URL: https://www.lcsc.com/product-detail/C2073319.html?s_z=n_q_TPS62826&spm=wm.fly.bg.0.xh&lcsc_vid=EwRWBFZSQVIPVFdUTlJfVldeFFRYUFQAElRYBFRRE1MxVlNeRVlfXlxRQVldVTsOAxUeFF5JWBYZEEoKFBINSQcJGk4dAgUUFAk%3D
footprint VSON-6_L1.5-W1.5-P0.50-TL
pins: 1 EN, 2 PG, 3 FB, 4 GND, 5 SW, 6 VIN

## WPM3407-3/TR
designator Q?, comment P-CHANNEL
MOSFET P-CH 30V 4.4A SOT-23
footprint SOT-23-3_L2.9-W1.3-P1.90-LS2.4-BR
pins: 1 G, 2 S, 3 D

## XTAL_24Mhz-12pF-4-SMD
designator X?, comment 24MHz
CRYSTAL 24MHz 12pF SMD; ComponentLink1Description: LCSC; ComponentLink1URL: https://www.lcsc.com/product-detail/C37635324.html?spm=wm.fly.bg.3.xh&lcsc_vid=EwRWBFZSQVIPVFdUTlJfVldeFFRYUFQAElRYBFRRE1MxVlNeRFdcUVxRR1BcVjsOAxUeFF5JWBYZEEoKFBINSQcJGk4eFQsCAgIaSgADAwAHC0slRVlaVlJXWQkaCgg%3D
footprint CRYSTAL-SMD_4P-L2.0-W1.6-BL (SMD2016)
pins: 1 OSC1, 2 GND, 3 OSC2, 4 GND